# Altium footprint library Header Connector.PcbLib: 36 footprints (part 1 of 3)
Each footprint in its own frame and in the unit in brackets; x right, y up, seen from the top. Pads: shape width x height; smd on the part's side, far side on the other; paste and mask are expansions set on the pad; w line width, h text height; cw(c..) or ccw(c..) is an arc to the next point about the centre after c.
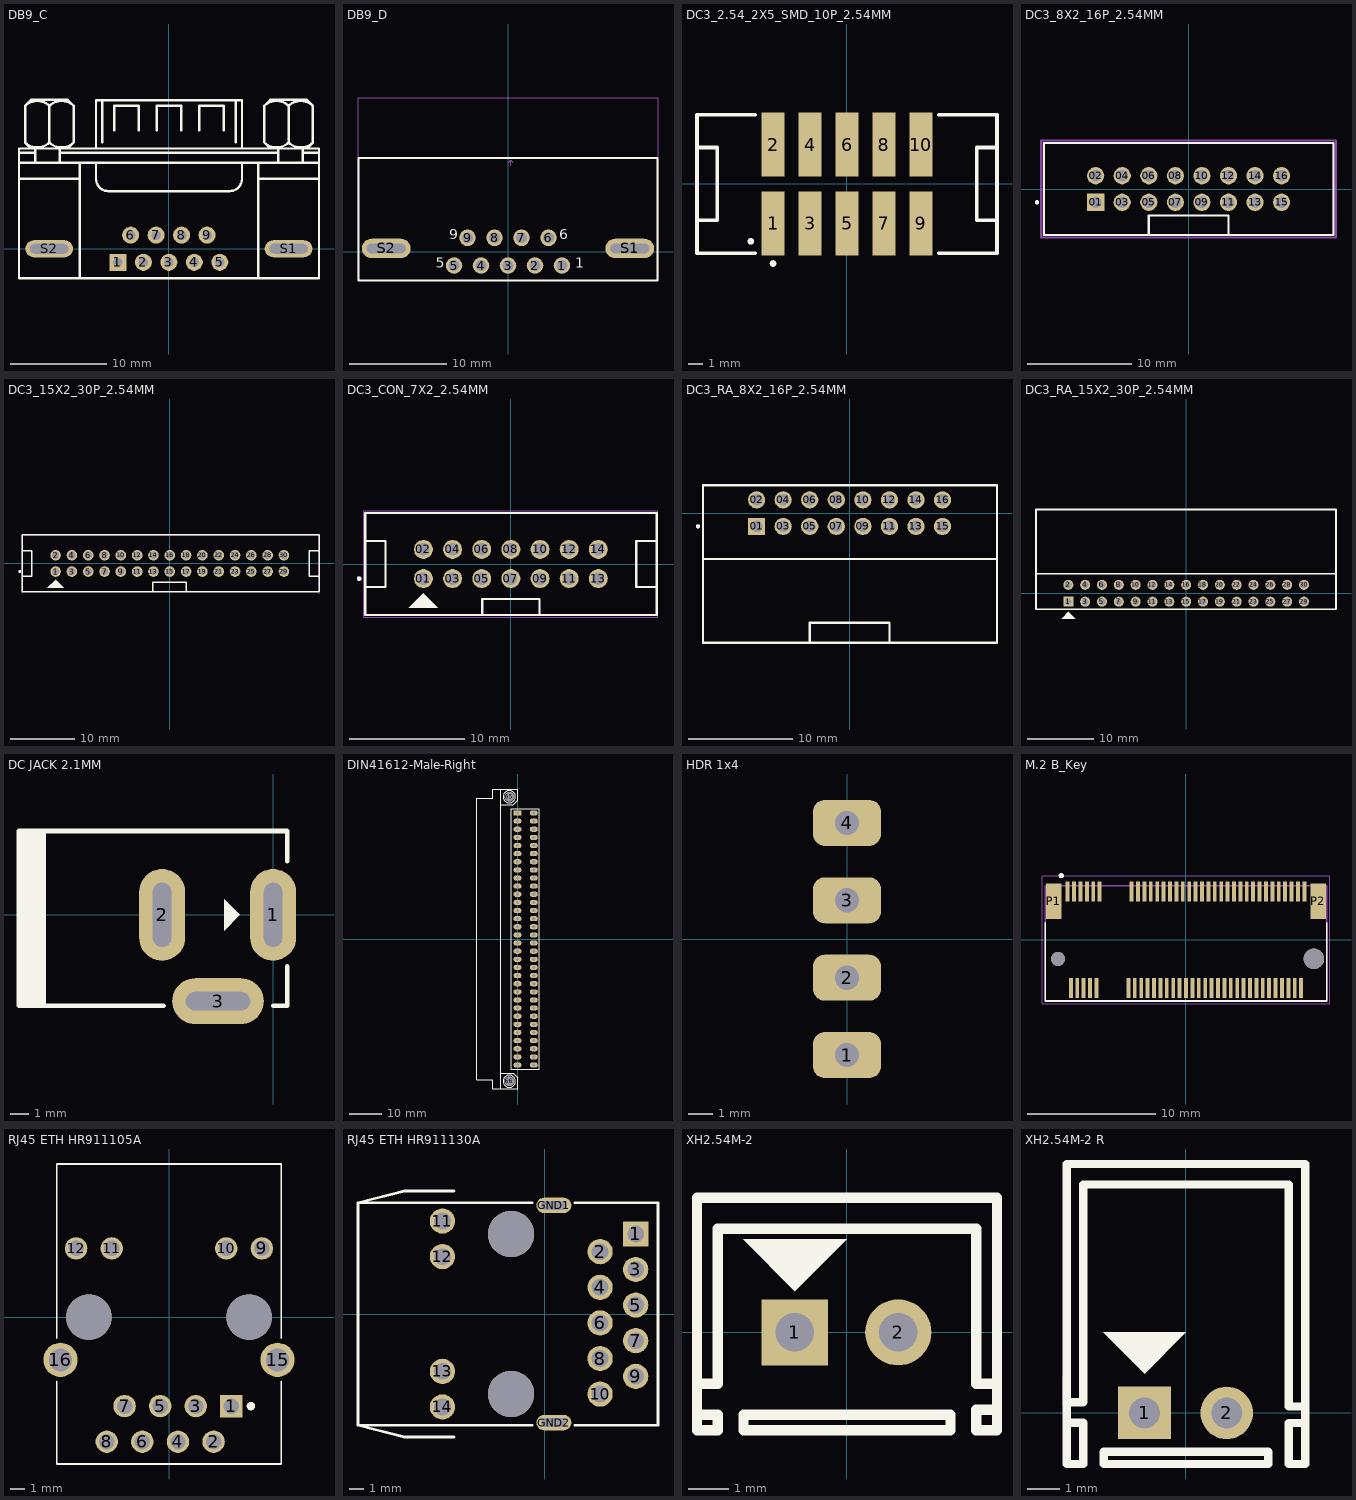
[diagram p0: the footprints below, top view; thin cyan lines are the x and y axes]

## DB9_C [mm]
pads (11):
  rect 1.778x1.778 hole 1: 1(-5.32,-1.42)
  round 1.778 hole 1: 2(-2.66,-1.42) 3(0,-1.42) 4(2.66,-1.42) 5(5.32,-1.42) 6(-3.99,1.42) 7(-1.33,1.42) 8(1.33,1.42) 9(3.99,1.42)
  oval 5x1.778 hole 1 slot 4 at 0 deg: S1(12.5,0) S2(-12.5,0)
Top Overlay:
  lines w0.254: -15.649,7.292 -9.299,7.292 ; -15.649,8.985 15.678,8.985 ; -15.649,10.043 -13.956,10.043 ; -15.016,11.1 ccw(c-13.744,12.372) -12.472,11.1 ; -15.016,14.914 cw(c-13.744,13.642) -12.472,14.914 ; -14.379,10.467 -15.014,11.102 -15.014,14.912 -14.379,15.547 -10.569,15.547 -9.934,14.912 -9.934,11.102 -10.569,10.467 ; -13.956,8.985 -13.956,10.467 ; -12.476,11.1 ccw(c-11.204,12.372) -9.932,11.1 ; -12.476,14.914 cw(c-11.204,13.642) -9.932,14.914 ; -12.474,11.102 -12.474,14.912 ; -11.416,8.985 -11.416,10.467 ; -11.416,10.043 11.444,10.043 ; -9.299,-3.071 -9.299,8.985 ; -7.606,8.985 -7.606,7.292 ccw(c-6.336,7.292) -6.336,6.022 6.364,6.022 ccw(c6.364,7.292) 7.634,7.292 7.634,8.985 ; -7.606,10.467 -7.606,15.494 7.634,15.494 7.634,10.467 ; -6.971,11.102 -6.971,15.402 ; -5.701,12.372 -5.701,14.912 -3.161,14.912 -3.161,12.372 ; -1.256,12.372 -1.256,14.912 1.284,14.912 1.284,12.372 ; 3.189,12.372 3.189,14.912 5.729,14.912 5.729,12.372 ; 6.999,11.102 6.999,15.402 ; 9.328,-3.071 9.328,8.985 ; 9.328,7.292 15.678,7.292 ; 9.961,11.1 ccw(c11.233,12.372) 12.505,11.1 ; 9.961,14.914 cw(c11.233,13.642) 12.505,14.914 ; 10.598,10.467 9.963,11.102 9.963,14.912 10.598,15.547 14.408,15.547 15.043,14.912 15.043,11.102 14.408,10.467 ; 11.444,8.985 11.444,10.467 ; 12.501,11.1 ccw(c13.773,12.372) 15.045,11.1 ; 12.501,14.914 cw(c13.773,13.642) 15.045,14.914 ; 12.503,11.102 12.503,14.912 ; 13.984,8.985 13.984,10.467 ; 13.984,10.043 15.678,10.043 ; -15.649,-3.071 -15.649,10.467 15.678,10.467 15.678,-3.068 15.675,-3.071 -15.649,-3.071
3D body "DB9.STEP": height 12.73, standoff -3.77, extent -15.467,-2.9 15.433,15.5

## DB9_D [mm]
height 8.54
pads (11):
  round 1.7 hole 1.1: 1(5.54,-1.42) 2(2.77,-1.42) 3(0,-1.42) 4(-2.77,-1.42) 5(-5.54,-1.42) 6(4.155,1.42) 7(1.385,1.42) 8(-1.385,1.42) 9(-4.155,1.42)
  oval 5x2 hole 1 slot 4 at 0 deg: S1(12.5,0.331) S2(-12.5,0.331)
Top Overlay:
  lines w0.2: -15.367,-2.953 15.367,-2.953 15.367,9.602 -15.367,9.602 -15.367,-2.953
  text "1" at 6.908,-2.012 h1.8
  text "6" at 5.279,0.9 h1.8
  text "5" at -7.422,-2.012 h1.8
  text "9" at -6.024,0.9 h1.8
Mechanical 13:
  lines w0.1: -15.4,-2.953 -15.4,9.42 ; 0.1,9.2 0.3,9.4 ; 0.3,8.8 0.3,9.4 ; 0.5,9.2 0.3,9.4 ; 15.4,-2.953 15.4,9.42 ; -15.4,9.602 -15.4,15.825 15.4,15.825 15.4,9.602 -15.4,9.602
  text "EDGE OF PCB Board" at 3.3,8.7 h0.41
3D body "DB9 Male Right Angle Connector.step": height 12.62, standoff -3.13, extent -15.405,-2.953 15.405,15.647

## DC3_2.54_2X5_SMD_10P_2.54MM [mm]
pads (10):
  rect 1.6x4.4 smd: 1(-5.08,-2.7) 2(-5.08,2.7) 3(-2.54,-2.7) 4(-2.54,2.7) 5(0,-2.7) 6(0,2.7) 7(2.54,-2.7) 8(2.54,2.7) 9(5.08,-2.7) 10(5.08,2.7)
Top Overlay:
  circle w0.203: c-6.604,-3.937 r0.127
  circle w0.203: c-5.08,-5.461 r0.127
  lines w0.254: -10.3,-2.5 -8.9,-2.5 -8.9,2.5 -10.3,2.5 ; -6.3,-4.75 -10.3,-4.75 -10.3,4.75 -6.3,4.75 ; 6.3,-4.75 10.3,-4.75 10.3,4.75 6.3,4.75 ; 10.3,-2.5 8.9,-2.5 8.9,2.5 10.3,2.5
3D body "DS1013-10MSi.stp": height 10.3, standoff 0.1, extent -10.3,-4.75 10.3,4.75

## DC3_8X2_16P_2.54MM [mm]
pads (16):
  rect 1.65x1.65 / inner round 1.65 / far side rect 1.65x1.65 hole 1.1: 01(-8.89,-1.27)
  round 1.65 hole 1.1: 02(-8.89,1.27) 03(-6.35,-1.27) 04(-6.35,1.27) 05(-3.81,-1.27) 06(-3.81,1.27) 07(-1.27,-1.27) 08(-1.27,1.27) 09(1.27,-1.27) 10(1.27,1.27) 11(3.81,-1.27) 12(3.81,1.27) 13(6.35,-1.27) 14(6.35,1.27) 15(8.89,-1.27) 16(8.89,1.27)
Top Overlay:
  circle w0.2: c-14.49,-1.27 r0.1
  lines w0.203: -3.81,-4.38 -3.81,-2.54 3.81,-2.54 3.81,-4.38 ; -13.84,-4.38 -13.84,4.38 13.84,4.38 13.84,-4.38 -13.84,-4.38
Mechanical 13:
  circle w0.2: c-14.49,-1.27 r0.1
  lines w0.203: -13.84,-4.38 -13.84,4.38 ; -13.84,-4.38 13.84,-4.38 ; -13.84,-4.38 -13.84,4.38 ; -13.84,4.38 13.84,4.38 ; -13.84,4.38 13.84,4.38 ; 13.84,-4.38 13.84,4.38 ; 13.84,-4.38 13.84,4.38
Mechanical 15:
  lines w0.203: -14.09,-4.63 -14.09,4.63 14.09,4.63 14.09,-4.63 -14.09,-4.63
3D body "step_temp.STEP": height 9.65, standoff -2.79, extent -13.843,-4.381 13.843,4.382

## DC3_15X2_30P_2.54MM [mm]
pads (30):
  round 1.65 hole 1.1: 1(-17.78,-1.27) 2(-17.78,1.27) 3(-15.24,-1.27) 4(-15.24,1.27) 5(-12.7,-1.27) 6(-12.7,1.27) 7(-10.16,-1.27) 8(-10.16,1.27) 9(-7.62,-1.27) 10(-7.62,1.27) 11(-5.08,-1.27) 12(-5.08,1.27) 13(-2.54,-1.27) 14(-2.54,1.27) 15(0,-1.27) 16(0,1.27) 17(2.54,-1.27) 18(2.54,1.27) 19(5.08,-1.27) 20(5.08,1.27) 21(7.62,-1.27) 22(7.62,1.27) 23(10.16,-1.27) 24(10.16,1.27) 25(12.7,-1.27) 26(12.7,1.27) 27(15.24,-1.27) 28(15.24,1.27) 29(17.78,-1.27) 30(17.78,1.27)
Top Overlay:
  circle w0.2: c-23.38,-1.27 r0.1
  region: -16.51,-3.81 -19.05,-3.81 -17.78,-2.54
  lines w0.203: -22.987,-2 -21.463,-2 -21.463,2 -22.987,2 ; -2.667,-4.445 -2.667,-2.921 2.54,-2.921 2.54,-4.445 ; 23.241,-2 21.717,-2 21.717,2 23.241,2 ; -22.987,-4.445 -22.987,4.445 23.241,4.445 23.241,-4.445 -22.987,-4.445
Mechanical 13:
  circle w0.2: c-23.38,-1.27 r0.1
Mechanical 15:
  lines w0.05: -22.98,-4.63 -22.98,4.445 23.241,4.445
  lines w0.051: 23.168,-4.637 23.241,-4.637 23.241,4.445
3D body "IDC_15X2.STEP": height 9.03, standoff -2.77, extent -22.926,-4.482 23.114,4.318

## DC3_CON_7X2_2.54MM [mm]
pads (14):
  round 1.65 hole 1.1: 01(-7.62,-1.27) 02(-7.62,1.27) 03(-5.08,-1.27) 04(-5.08,1.27) 05(-2.54,-1.27) 06(-2.54,1.27) 07(0,-1.27) 08(0,1.27) 09(2.54,-1.27) 10(2.54,1.27) 11(5.08,-1.27) 12(5.08,1.27) 13(7.62,-1.27) 14(7.62,1.27)
Top Overlay:
  circle w0.2: c-13.22,-1.27 r0.1
  region: -6.35,-3.81 -8.89,-3.81 -7.62,-2.54
  lines w0.203: -2.5,-4.318 -2.5,-3.048 2.5,-3.048 2.5,-4.318 ; 12.7,-2 10.922,-2 10.922,2 12.7,2 ; -12.7,-4.445 12.7,-4.445 12.7,4.449 6.216,4.449 -5.462,4.449 -12.7,4.449 -12.7,-4.445 ; -12.7,-2 -10.922,-2 -10.922,2 -12.7,2 -12.7,-2
Mechanical 13:
  circle w0.2: c-13.22,-1.27 r0.1
Mechanical 15:
  lines w0.05: -12.82,-4.63 12.82,-4.63 12.82,4.63 -12.82,4.63 -12.82,-4.63
3D body "HTST-107-02-T-D.stp": height 9.02, standoff -4.44, extent -12.7,-4.445 12.7,4.826

## DC3_RA_8X2_16P_2.54MM [mm]
pads (16):
  rect 1.65x1.65 / inner round 1.65 / far side rect 1.65x1.65 hole 1.1: 01(-8.89,-1.27)
  round 1.65 hole 1.1: 02(-8.89,1.27) 03(-6.35,-1.27) 04(-6.35,1.27) 05(-3.81,-1.27) 06(-3.81,1.27) 07(-1.27,-1.27) 08(-1.27,1.27) 09(1.27,-1.27) 10(1.27,1.27) 11(3.81,-1.27) 12(3.81,1.27) 13(6.35,-1.27) 14(6.35,1.27) 15(8.89,-1.27) 16(8.89,1.27)
Top Overlay:
  circle w0.2: c-14.49,-1.27 r0.1
  lines w0.203: -3.81,-12.319 -3.81,-10.479 3.81,-10.479 3.81,-12.319 ; -14.03,-4.38 -14.03,-12.4 14.097,-12.4 14.097,-4.38 ; -14.03,-4.38 -14.03,2.667 14.097,2.667 14.097,-4.38 ; -14.03,-4.38 14.097,-4.38
Mechanical 13:
  circle w0.2: c-14.49,-1.27 r0.1
3D body "DS1013-16R (IDC-16R CONNFLY).stp": height 9.08, standoff -2.82, extent -14.03,-12.4 14.09,1.62

## DC3_RA_15X2_30P_2.54MM [mm]
height 9.2
pads (30):
  rect 1.508x1.508 / inner round 1.508 / far side rect 1.508x1.508 hole 1: 1(-17.78,-1.27)
  round 1.508 hole 1: 2(-17.78,1.27) 3(-15.24,-1.27) 4(-15.24,1.27) 5(-12.7,-1.27) 6(-12.7,1.27) 7(-10.16,-1.27) 8(-10.16,1.27) 9(-7.62,-1.27) 10(-7.62,1.27) 11(-5.08,-1.27) 12(-5.08,1.27) 13(-2.54,-1.27) 14(-2.54,1.27) 15(0,-1.27) 16(0,1.27) 17(2.54,-1.27) 18(2.54,1.27) 19(5.08,-1.27) 20(5.08,1.27) 21(7.62,-1.27) 22(7.62,1.27) 23(10.16,-1.27) 24(10.16,1.27) 25(12.7,-1.27) 26(12.7,1.27) 27(15.24,-1.27) 28(15.24,1.27) 29(17.78,-1.27) 30(17.78,1.27)
Top Overlay:
  region: -17.78,-2.794 -18.796,-3.81 -16.764,-3.81
  lines w0.254: -22.655,12.622 -22.655,2.921 -10.959,2.921 10.402,2.921 10.922,2.921 22.606,2.921 ; -22.655,-2.413 -22.655,12.64 22.606,12.64 22.606,-2.413 -22.655,-2.413
3D body "75867-133LF--3DModel-STEP-510211.STEP": height 9.2, standoff -3.25, extent -22.655,-1.58 22.655,12.64

## DC JACK 2.1MM [mm] "DC JACK"
height 11
pads (3):
  oval 2.5x5 hole 1 slot 3.5 at 90 deg: 1(0,0) 2(-6.048,0)
  oval 5x2.5 hole 1 slot 3.5 at 0 deg: 3(-3,-4.699)
Top Overlay:
  region: -2.667,-0.863 -2.667,0.863 -1.804,0
  region: -13.781,4.572 -12.381,4.572 -12.381,-4.953 -13.781,-4.953
  lines w0.254: -13.843,4.572 -13.843,-4.953 -5.969,-4.953 ; -13.781,4.572 -9.674,4.572 -2.753,4.572 0.635,4.572 0.762,4.572 0.762,2.921 ; 0,-4.953 0.762,-4.953 0.762,-2.794
3D body "pj-002a.stp": height 11.01, standoff -3.49, extent -13.717,-4.929 0.683,4.471

## DIN41612-Male-Right [mm]
pads (66):
  rect 2.5x1.6 hole 1: 1(0,39.37)
  oval 2.5x1.6 hole 1: 2(0,36.83) 3(0,34.29) 4(0,31.75) 5(0,29.21) 6(0,26.67) 7(0,24.13) 8(0,21.59) 9(0,19.05) 10(0,16.51) 11(0,13.97) 12(0,11.43) 13(0,8.89) 14(0,6.35) 15(0,3.81) 16(0,1.27) 17(0,-1.27) 18(0,-3.81) 19(0,-6.35) 20(0,-8.89) 21(0,-11.43) 22(0,-13.97) 23(0,-16.51) 24(0,-19.05) 25(0,-21.59) 26(0,-24.13) 27(0,-26.67) 28(0,-29.21) 29(0,-31.75) 30(0,-34.29) 31(0,-36.83) 32(0,-39.37) 33(5.08,-39.37) 34(5.08,-36.83) 35(5.08,-34.29) 36(5.08,-31.75) 37(5.08,-29.21) 38(5.08,-26.67) 39(5.08,-24.13) 40(5.08,-21.59) 41(5.08,-19.05) 42(5.08,-16.51) 43(5.08,-13.97) 44(5.08,-11.43) 45(5.08,-8.89) 46(5.08,-6.35) 47(5.08,-3.81) 48(5.08,-1.27) 49(5.08,1.27) 50(5.08,3.81) 51(5.08,6.35) 52(5.08,8.89) 53(5.08,11.43) 54(5.08,13.97) 55(5.08,16.51) 56(5.08,19.05) 57(5.08,21.59) 58(5.08,24.13) 59(5.08,26.67) 60(5.08,29.21) 61(5.08,31.75) 62(5.08,34.29) 63(5.08,36.83) 64(5.08,39.37)
  round 3 hole 3: 65(-2.55,44.445) 66(-2.55,-44.445)
Top Overlay:
  circle w0.254: c-2.55,44.445 r1.909
  circle w0.254: c-2.55,-44.445 r1.909
  lines w0.254: -5.229,-41.91 -1.397,-41.91 0,-43.307 0,-46.863 -5.247,-46.863 ; -5.229,41.91 -1.397,41.91 0,43.307 0,46.863 -5.247,46.863 ; -5.247,-46.863 -5.247,-41.91 -5.247,41.91 -5.247,46.863 ; -5.247,-46.863 -7.731,-46.863 -7.731,-44.047 -12.67,-44.047 -12.67,44.047 -7.731,44.047 -7.731,46.863 -5.247,46.863 ; -1.905,-40.64 -1.905,40.64 6.731,40.64 6.731,-40.64 -1.905,-40.64
3D body "SFA 2001-364ML.STEP": height 11.1, standoff -1.25, extent -12.655,-46.855 5.355,46.845

## HDR 1x4 [mm] "LED bar light"
pads (4):
  rrect50% 2.8x1.9 hole 1 mask+0.102: 1(0,-4.8) 2(0,-1.6) 3(0,1.6) 4(0,4.8)

## M.2 B_Key [mm]
pads (71):
  rect 0.3x1.55 smd: 1(-9.25,3.775) 2(-9,-3.775) 3(-8.75,3.775) 4(-8.5,-3.775) 5(-8.25,3.775) 6(-8,-3.775) 7(-7.75,3.775) 8(-7.5,-3.775) 9(-7.25,3.775) 10(-7,-3.775) 11(-6.75,3.775) 20(-4.5,-3.775) 21(-4.25,3.775) 22(-4,-3.775) 23(-3.75,3.775) 24(-3.5,-3.775) 25(-3.25,3.775) 26(-3,-3.775) 27(-2.75,3.775) 28(-2.5,-3.775) 29(-2.25,3.775) 30(-2,-3.775) 31(-1.75,3.775) 32(-1.5,-3.775) 33(-1.25,3.775) 34(-1,-3.775) 35(-0.75,3.775) 36(-0.5,-3.775) 37(-0.25,3.775) 38(0,-3.775) 39(0.25,3.775) 40(0.5,-3.775) 41(0.75,3.775) 42(1,-3.775) 43(1.25,3.775) 44(1.5,-3.775) 45(1.75,3.775) 46(2,-3.775) 47(2.25,3.775) 48(2.5,-3.775) 49(2.75,3.775) 50(3,-3.775) 51(3.25,3.775) 52(3.5,-3.775) 53(3.75,3.775) 54(4,-3.775) 55(4.25,3.775) 56(4.5,-3.775) 57(4.75,3.775) 58(5,-3.775) 59(5.25,3.775) 60(5.5,-3.775) 61(5.75,3.775) 62(6,-3.775) 63(6.25,3.775) 64(6.5,-3.775) 65(6.75,3.775) 66(7,-3.775) 67(7.25,3.775) 68(7.5,-3.775) 69(7.75,3.775) 70(8,-3.775) 71(8.25,3.775) 72(8.5,-3.775) 73(8.75,3.775) 74(9,-3.775) 75(9.25,3.775)
  rect 1.2x2.75 smd: P1(-10.35,3) P2(10.35,3)
  round 1.1 hole 1.1 unplated: ""(-10,-1.5)
  round 1.6 hole 1.6 unplated: ""(10,-1.5)
Top Overlay:
  circle w0.2: c-9.75,5 r0.1
  lines w0.127: -11,1.3 -11,-4.8 11,-4.8 11,1.3
Mechanical 13:
  lines w0.127: -11,-4.8 -11,4.2 11,4.2 11,-4.8 -11,-4.8
Mechanical 15:
  lines w0.05: -11.25,-5 -11.25,5 11.25,5 11.25,-5 -11.25,-5
3D body "step_temp.STEP": height 4.33, standoff -0.47, extent -11,-4.346 11,4.204

## RJ45 ETH HR911105A [mm]
height 10.16
pads (16):
  rect 1.6x1.6 hole 1.1: 1(4.45,-6.35)
  round 1.6 hole 1.1: 2(3.18,-8.89) 3(1.91,-6.35) 4(0.64,-8.89) 5(-0.63,-6.35) 6(-1.9,-8.89) 7(-3.17,-6.35) 8(-4.44,-8.89) 9(6.625,4.9) 10(4.085,4.9) 11(-4.085,4.9) 12(-6.625,4.9)
  round 2.445 hole 1.63: 15(7.745,-3.05) 16(-7.745,-3.05)
  round 3.25 hole 3.25 unplated: ""(-5.715,0) ""(5.715,0)
Top Overlay:
  circle w0.3: c5.842,-6.35 r0.15
  lines w0.127: -8,-4.6 -8,-10.48 8,-10.48 8,-4.6 ; -8,-1.5 -8,10.92 8,10.92 8,-1.5
3D body "hanrun_HR911105A_socket_with_mark.step": height 13.7, standoff -3.05, extent -8.02,-10.45 8.02,10.85

## RJ45 ETH HR911130A [mm] "C91754"
height 1.1
pads (18):
  rect 1.8x1.8 hole 1.2: 1(6.49,5.715)
  round 1.8 hole 1.2: 2(3.95,4.445) 3(6.49,3.175) 4(3.95,1.905) 5(6.49,0.635) 6(3.95,-0.635) 7(6.49,-1.905) 8(3.95,-3.175) 9(6.49,-4.445) 10(3.95,-5.715) 11(-7.3,6.629) 12(-7.3,4.089) 13(-7.3,-4.089) 14(-7.3,-6.629)
  oval 2.5x1.1 hole 0.6 slot 1.8 at 0 deg: GND1(0.648,7.747) GND2(0.648,-7.747)
  round 3.3 hole 3.3 unplated mask+0: ""(-2.4,-5.7) ""(-2.4,5.7)
Top Overlay:
  lines w0.203: -6.464,-8.778 -10.02,-8.778 -13.322,-7.94 ; -6.464,8.778 -10.02,8.778 -13.322,7.94 ; -0.889,-7.94 -13.322,-7.94 ; -0.889,7.94 -13.322,7.94 ; 2.159,-7.94 8.078,-7.94 8.078,7.94 2.159,7.94 ; -13.322,-7.94 -13.322,7.94
3D body "RJ45.stp": height 13.97, standoff -2.53, extent -13.322,-7.94 8.078,7.94

## XH2.54M-2 [mil]
pads (2):
  rect 64x64 hole 37.4: 1(-50,0)
  round 64 hole 37.4: 2(50,0)
Top Overlay:
  region: -100,90 0,90 -50,40
  lines w10: -144.56,-74.72 -144.56,-79.72 -124.56,-79.72 -124.56,-94.72 -144.56,-94.72 -144.56,130.28 145.44,130.28 145.44,-94.72 125.44,-94.72 125.44,-74.72 145.44,-74.72 ; -144.56,-49.72 -124.56,-49.72 -124.56,100.28 125.44,100.28 125.44,-49.72 145.44,-49.72 145.44,-54.72 ; -99.56,-94.72 -99.56,-79.72 100.44,-79.72 100.44,-94.72 -99.56,-94.72
3D body "User Library-User Library-jst-b2b-xh-a.STEP": height 280.59, standoff -128.86, extent -145.17,-93.19 146.17,133.19

## XH2.54M-2 R [mil]
pads (2):
  rect 64x64 hole 37.4: 1(-50,0)
  round 64 hole 37.4: 2(50,0)
Top Overlay:
  region: -100,97.87 0,97.87 -50,47.87
  lines w10: -144.56,-11.92 -124.56,-11.92 -124.56,-62.13 -144.56,-62.13 -144.56,302.87 145.44,302.87 145.44,-62.13 125.44,-62.13 125.44,-12.13 145.44,-12.13 ; -144.56,12.87 -124.56,12.87 -124.56,277.87 125.44,277.87 125.44,7.87 145.44,7.87 145.44,-46.85 ; -99.56,-62.13 -99.56,-47.13 100.44,-47.13 100.44,-62.13 -99.56,-62.13
Mechanical 1:
  lines w10: -144.56,9.46 -144.56,42.87
3D body "JST - XH - Thru (R) - 2Pin - 2.54mm.stp": height 235, standoff -128, extent -142,-11.92 142,304.48